# Altium schematic symbol library KFHB9500.SchLib: 11 symbols
Pins are listed as number, name and electrical type; pins without a type are passive.

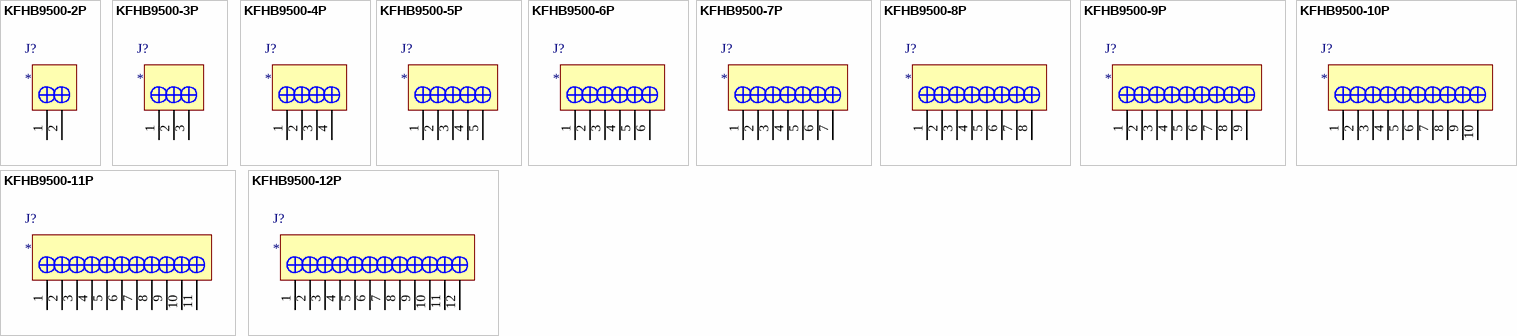
[diagram p0: symbols KFHB9500-2P to KFHB9500-12P]

## KFHB9500-2P
designator J?
footprint KFHB9500-2P
pins: 1, 2

## KFHB9500-3P
designator J?
footprint KFHB9500-3P
pins: 1, 2, 3

## KFHB9500-4P
designator J?
footprint KFHB9500-4P
pins: 1, 2, 3, 4

## KFHB9500-5P
designator J?
footprint KFHB9500-5P
pins: 1, 2, 3, 4, 5

## KFHB9500-6P
designator J?
footprint KFHB9500-6P
pins: 1, 2, 3, 4, 5, 6

## KFHB9500-7P
designator J?
footprint KFHB9500-7P
pins: 1, 2, 3, 4, 5, 6, 7

## KFHB9500-8P
designator J?
footprint KFHB9500-8P
pins: 1, 2, 3, 4, 5, 6, 7, 8

## KFHB9500-9P
designator J?
footprint KFHB9500-9P
pins: 1, 2, 3, 4, 5, 6, 7, 8, 9

## KFHB9500-10P
designator J?
footprint KFHB9500-10P
pins: 1, 2, 3, 4, 5, 6, 7, 8, 9, 10

## KFHB9500-11P
designator J?
footprint KFHB9500-11P
pins: 1, 2, 3, 4, 5, 6, 7, 8, 9, 10, 11

## KFHB9500-12P
designator J?
footprint KFHB9500-12P
pins: 1, 2, 3, 4, 5, 6, 7, 8, 9, 10, 11, 12